# Altium integrated library ALTIUM-WCAP-ASLL-rev17a.IntLib: 95 symbols (part 1 of 2)
Pins are listed as number, name and electrical type; pins without a type are passive.

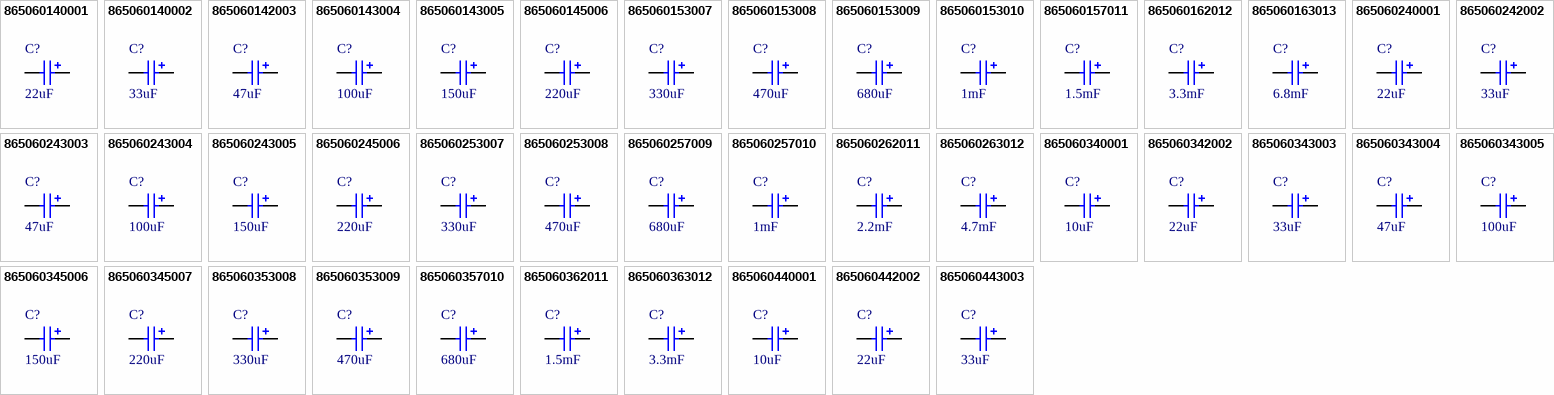
[diagram p0: symbols 865060140001 to 865060443003]

## 865060140001
designator C?  value 22uF
WCAP-ASLL Aluminum Electrolytic Capacitors, size Ф4x5.5mm, 6.3V DC, 22uF; Part Number: 865060140001; Rated Voltage: 6.3V DC; ComponentLink1Description: Manufacturer; ComponentLink1URL: http://www.we-online.de; ComponentLink2Description: Datasheet; ComponentLink2URL: http://katalog.we-online.de/pbs/datasheet/865060140001.pdf; Published Date: June 2017; Publisher: Wurth Elektronik; Size: Ф4x5.5mm; Life Cycle: 2000h; Operating Temperature: -55 °C up to +105 °C
footprint WCAP-ASLL_4x5.5
pins: 1 P, 2 N

## 865060140002
designator C?  value 33uF
WCAP-ASLL Aluminum Electrolytic Capacitors, size Ф4x5.5mm, 6.3V DC, 33uF; Part Number: 865060140002; Rated Voltage: 6.3V DC; ComponentLink1Description: Manufacturer; ComponentLink1URL: http://www.we-online.de; ComponentLink2Description: Datasheet; ComponentLink2URL: http://katalog.we-online.de/pbs/datasheet/865060140002.pdf; Published Date: June 2017; Publisher: Wurth Elektronik; Size: Ф4x5.5mm; Life Cycle: 2000h; Operating Temperature: -55 °C up to +105 °C
footprint WCAP-ASLL_4x5.5
pins: 1 P, 2 N

## 865060142003
designator C?  value 47uF
WCAP-ASLL Aluminum Electrolytic Capacitors, size Ф5x5.5mm, 6.3V DC, 47uF; Part Number: 865060142003; Rated Voltage: 6.3V DC; ComponentLink1Description: Manufacturer; ComponentLink1URL: http://www.we-online.de; ComponentLink2Description: Datasheet; ComponentLink2URL: http://katalog.we-online.de/pbs/datasheet/865060142003.pdf; Published Date: June 2017; Publisher: Wurth Elektronik; Size: Ф5x5.5mm; Life Cycle: 2000h; Operating Temperature: -55 °C up to +105 °C
footprint WCAP-ASLL_5x5.5
pins: 1 P, 2 N

## 865060143004
designator C?  value 100uF
WCAP-ASLL Aluminum Electrolytic Capacitors, size Ф6.3x5.5mm, 6.3V DC, 100uF; Part Number: 865060143004; Rated Voltage: 6.3V DC; ComponentLink1Description: Manufacturer; ComponentLink1URL: http://www.we-online.de; ComponentLink2Description: Datasheet; ComponentLink2URL: http://katalog.we-online.de/pbs/datasheet/865060143004.pdf; Published Date: June 2017; Publisher: Wurth Elektronik; Size: Ф6.3x5.5mm; Life Cycle: 2000h; Operating Temperature: -55 °C up to +105 °C
footprint WCAP-ASLL_6.3x5.5
pins: 1 P, 2 N

## 865060143005
designator C?  value 150uF
WCAP-ASLL Aluminum Electrolytic Capacitors, size Ф6.3x5.5mm, 6.3V DC, 150uF; Part Number: 865060143005; Rated Voltage: 6.3V DC; ComponentLink1Description: Manufacturer; ComponentLink1URL: http://www.we-online.de; ComponentLink2Description: Datasheet; ComponentLink2URL: http://katalog.we-online.de/pbs/datasheet/865060143005.pdf; Published Date: June 2017; Publisher: Wurth Elektronik; Size: Ф6.3x5.5mm; Life Cycle: 2000h; Operating Temperature: -55 °C up to +105 °C
footprint WCAP-ASLL_6.3x5.5
pins: 1 P, 2 N

## 865060145006
designator C?  value 220uF
WCAP-ASLL Aluminum Electrolytic Capacitors, size Ф6.3x7.7mm, 6.3V DC, 220uF; Part Number: 865060145006; Rated Voltage: 6.3V DC; ComponentLink1Description: Manufacturer; ComponentLink1URL: http://www.we-online.de; ComponentLink2Description: Datasheet; ComponentLink2URL: http://katalog.we-online.de/pbs/datasheet/865060145006.pdf; Published Date: June 2017; Publisher: Wurth Elektronik; Size: Ф6.3x7.7mm; Life Cycle: 2000h; Operating Temperature: -55 °C up to +105 °C
footprint WCAP-ASLL_6.3x7.7
pins: 1 P, 2 N

## 865060153007
designator C?  value 330uF
WCAP-ASLL Aluminum Electrolytic Capacitors, size Ф8x10.5mm, 6.3V DC, 330uF; Part Number: 865060153007; Rated Voltage: 6.3V DC; ComponentLink1Description: Manufacturer; ComponentLink1URL: http://www.we-online.de; ComponentLink2Description: Datasheet; ComponentLink2URL: http://katalog.we-online.de/pbs/datasheet/865060153007.pdf; Published Date: June 2017; Publisher: Wurth Elektronik; Size: Ф8x10.5mm; Life Cycle: 5000h; Operating Temperature: -55 °C up to +105 °C
footprint WCAP-ASLL_8x10.5
pins: 1 P, 2 N

## 865060153008
designator C?  value 470uF
WCAP-ASLL Aluminum Electrolytic Capacitors, size Ф8x10.5mm, 6.3V DC, 470uF; Part Number: 865060153008; Rated Voltage: 6.3V DC; ComponentLink1Description: Manufacturer; ComponentLink1URL: http://www.we-online.de; ComponentLink2Description: Datasheet; ComponentLink2URL: http://katalog.we-online.de/pbs/datasheet/865060153008.pdf; Published Date: June 2017; Publisher: Wurth Elektronik; Size: Ф8x10.5mm; Life Cycle: 5000h; Operating Temperature: -55 °C up to +105 °C
footprint WCAP-ASLL_8x10.5
pins: 1 P, 2 N

## 865060153009
designator C?  value 680uF
WCAP-ASLL Aluminum Electrolytic Capacitors, size Ф8x10.5mm, 6.3V DC, 680uF; Part Number: 865060153009; Rated Voltage: 6.3V DC; ComponentLink1Description: Manufacturer; ComponentLink1URL: http://www.we-online.de; ComponentLink2Description: Datasheet; ComponentLink2URL: http://katalog.we-online.de/pbs/datasheet/865060153009.pdf; Published Date: June 2017; Publisher: Wurth Elektronik; Size: Ф8x10.5mm; Life Cycle: 5000h; Operating Temperature: -55 °C up to +105 °C
footprint WCAP-ASLL_8x10.5
pins: 1 P, 2 N

## 865060153010
designator C?  value 1mF
WCAP-ASLL Aluminum Electrolytic Capacitors, size Ф8x10.5mm, 6.3V DC, 1mF; Part Number: 865060153010; Rated Voltage: 6.3V DC; ComponentLink1Description: Manufacturer; ComponentLink1URL: http://www.we-online.de; ComponentLink2Description: Datasheet; ComponentLink2URL: http://katalog.we-online.de/pbs/datasheet/865060153010.pdf; Published Date: June 2017; Publisher: Wurth Elektronik; Size: Ф8x10.5mm; Life Cycle: 5000h; Operating Temperature: -55 °C up to +105 °C
footprint WCAP-ASLL_8x10.5
pins: 1 P, 2 N

## 865060157011
designator C?  value 1.5mF
WCAP-ASLL Aluminum Electrolytic Capacitors, size Ф10x10.5mm, 6.3V DC, 1.5mF; Part Number: 865060157011; Rated Voltage: 6.3V DC; ComponentLink1Description: Manufacturer; ComponentLink1URL: http://www.we-online.de; ComponentLink2Description: Datasheet; ComponentLink2URL: http://katalog.we-online.de/pbs/datasheet/865060157011.pdf; Published Date: June 2017; Publisher: Wurth Elektronik; Size: Ф10x10.5mm; Life Cycle: 5000h; Operating Temperature: -55 °C up to +105 °C
footprint WCAP-ASLL_10x10.5
pins: 1 P, 2 N

## 865060162012
designator C?  value 3.3mF
WCAP-ASLL Aluminum Electrolytic Capacitors, size Ф12.5x14mm, 6.3V DC, 3.3mF; Part Number: 865060162012; Rated Voltage: 6.3V DC; ComponentLink1Description: Manufacturer; ComponentLink1URL: http://www.we-online.de; ComponentLink2Description: Datasheet; ComponentLink2URL: http://katalog.we-online.de/pbs/datasheet/865060162012.pdf; Published Date: June 2017; Publisher: Wurth Elektronik; Size: Ф12.5x14mm; Life Cycle: 5000h; Operating Temperature: -55 °C up to +105 °C
footprint WCAP-ASLL_12.5x14
pins: 1 P, 2 N

## 865060163013
designator C?  value 6.8mF
WCAP-ASLL Aluminum Electrolytic Capacitors, size Ф16x17mm, 6.3V DC, 6.8mF; Part Number: 865060163013; Rated Voltage: 6.3V DC; ComponentLink1Description: Manufacturer; ComponentLink1URL: http://www.we-online.de; ComponentLink2Description: Datasheet; ComponentLink2URL: http://katalog.we-online.de/pbs/datasheet/865060163013.pdf; Published Date: June 2017; Publisher: Wurth Elektronik; Size: Ф16x17mm; Life Cycle: 5000h; Operating Temperature: -55 °C up to +105 °C
footprint WCAP-ASLL_16x17
pins: 1 P, 2 N

## 865060240001
designator C?  value 22uF
WCAP-ASLL Aluminum Electrolytic Capacitors, size Ф4x5.5mm, 10V DC, 22uF; Part Number: 865060240001; Rated Voltage: 10V DC; ComponentLink1Description: Manufacturer; ComponentLink1URL: http://www.we-online.de; ComponentLink2Description: Datasheet; ComponentLink2URL: http://katalog.we-online.de/pbs/datasheet/865060240001.pdf; Published Date: June 2017; Publisher: Wurth Elektronik; Size: Ф4x5.5mm; Life Cycle: 2000h; Operating Temperature: -55 °C up to +105 °C
footprint WCAP-ASLL_4x5.5
pins: 1 P, 2 N

## 865060242002
designator C?  value 33uF
WCAP-ASLL Aluminum Electrolytic Capacitors, size Ф5x5.5mm, 10V DC, 33uF; Part Number: 865060242002; Rated Voltage: 10V DC; ComponentLink1Description: Manufacturer; ComponentLink1URL: http://www.we-online.de; ComponentLink2Description: Datasheet; ComponentLink2URL: http://katalog.we-online.de/pbs/datasheet/865060242002.pdf; Published Date: June 2017; Publisher: Wurth Elektronik; Size: Ф5x5.5mm; Life Cycle: 2000h; Operating Temperature: -55 °C up to +105 °C
footprint WCAP-ASLL_5x5.5
pins: 1 P, 2 N

## 865060243003
designator C?  value 47uF
WCAP-ASLL Aluminum Electrolytic Capacitors, size Ф6.3x5.5mm, 10V DC, 47uF; Part Number: 865060243003; Rated Voltage: 10V DC; ComponentLink1Description: Manufacturer; ComponentLink1URL: http://www.we-online.de; ComponentLink2Description: Datasheet; ComponentLink2URL: http://katalog.we-online.de/pbs/datasheet/865060243003.pdf; Published Date: June 2017; Publisher: Wurth Elektronik; Size: Ф6.3x5.5mm; Life Cycle: 2000h; Operating Temperature: -55 °C up to +105 °C
footprint WCAP-ASLL_6.3x5.5
pins: 1 P, 2 N

## 865060243004
designator C?  value 100uF
WCAP-ASLL Aluminum Electrolytic Capacitors, size Ф6.3x5.5mm, 10V DC, 100uF; Part Number: 865060243004; Rated Voltage: 10V DC; ComponentLink1Description: Manufacturer; ComponentLink1URL: http://www.we-online.de; ComponentLink2Description: Datasheet; ComponentLink2URL: http://katalog.we-online.de/pbs/datasheet/865060243004.pdf; Published Date: June 2017; Publisher: Wurth Elektronik; Size: Ф6.3x5.5mm; Life Cycle: 2000h; Operating Temperature: -55 °C up to +105 °C
footprint WCAP-ASLL_6.3x5.5
pins: 1 P, 2 N

## 865060243005
designator C?  value 150uF
WCAP-ASLL Aluminum Electrolytic Capacitors, size Ф6.3x5.5mm, 10V DC, 150uF; Part Number: 865060243005; Rated Voltage: 10V DC; ComponentLink1Description: Manufacturer; ComponentLink1URL: http://www.we-online.de; ComponentLink2Description: Datasheet; ComponentLink2URL: http://katalog.we-online.de/pbs/datasheet/865060243005.pdf; Published Date: June 2017; Publisher: Wurth Elektronik; Size: Ф6.3x5.5mm; Life Cycle: 2000h; Operating Temperature: -55 °C up to +105 °C
footprint WCAP-ASLL_6.3x5.5
pins: 1 P, 2 N

## 865060245006
designator C?  value 220uF
WCAP-ASLL Aluminum Electrolytic Capacitors, size Ф6.3x7.7mm, 10V DC, 220uF; Part Number: 865060245006; Rated Voltage: 10V DC; ComponentLink1Description: Manufacturer; ComponentLink1URL: http://www.we-online.de; ComponentLink2Description: Datasheet; ComponentLink2URL: http://katalog.we-online.de/pbs/datasheet/865060245006.pdf; Published Date: June 2017; Publisher: Wurth Elektronik; Size: Ф6.3x7.7mm; Life Cycle: 2000h; Operating Temperature: -55 °C up to +105 °C
footprint WCAP-ASLL_6.3x7.7
pins: 1 P, 2 N

## 865060253007
designator C?  value 330uF
WCAP-ASLL Aluminum Electrolytic Capacitors, size Ф8x10.5mm, 10V DC, 330uF; Part Number: 865060253007; Rated Voltage: 10V DC; ComponentLink1Description: Manufacturer; ComponentLink1URL: http://www.we-online.de; ComponentLink2Description: Datasheet; ComponentLink2URL: http://katalog.we-online.de/pbs/datasheet/865060253007.pdf; Published Date: June 2017; Publisher: Wurth Elektronik; Size: Ф8x10.5mm; Life Cycle: 5000h; Operating Temperature: -55 °C up to +105 °C
footprint WCAP-ASLL_8x10.5
pins: 1 P, 2 N

## 865060253008
designator C?  value 470uF
WCAP-ASLL Aluminum Electrolytic Capacitors, size Ф8x10.5mm, 10V DC, 470uF; Part Number: 865060253008; Rated Voltage: 10V DC; ComponentLink1Description: Manufacturer; ComponentLink1URL: http://www.we-online.de; ComponentLink2Description: Datasheet; ComponentLink2URL: http://katalog.we-online.de/pbs/datasheet/865060253008.pdf; Published Date: June 2017; Publisher: Wurth Elektronik; Size: Ф8x10.5mm; Life Cycle: 5000h; Operating Temperature: -55 °C up to +105 °C
footprint WCAP-ASLL_8x10.5
pins: 1 P, 2 N

## 865060257009
designator C?  value 680uF
WCAP-ASLL Aluminum Electrolytic Capacitors, size Ф10x10.5mm, 10V DC, 680uF; Part Number: 865060257009; Rated Voltage: 10V DC; ComponentLink1Description: Manufacturer; ComponentLink1URL: http://www.we-online.de; ComponentLink2Description: Datasheet; ComponentLink2URL: http://katalog.we-online.de/pbs/datasheet/865060257009.pdf; Published Date: June 2017; Publisher: Wurth Elektronik; Size: Ф10x10.5mm; Life Cycle: 5000h; Operating Temperature: -55 °C up to +105 °C
footprint WCAP-ASLL_10x10.5
pins: 1 P, 2 N

## 865060257010
designator C?  value 1mF
WCAP-ASLL Aluminum Electrolytic Capacitors, size Ф10x10.5mm, 10V DC, 1mF; Part Number: 865060257010; Rated Voltage: 10V DC; ComponentLink1Description: Manufacturer; ComponentLink1URL: http://www.we-online.de; ComponentLink2Description: Datasheet; ComponentLink2URL: http://katalog.we-online.de/pbs/datasheet/865060257010.pdf; Published Date: June 2017; Publisher: Wurth Elektronik; Size: Ф10x10.5mm; Life Cycle: 5000h; Operating Temperature: -55 °C up to +105 °C
footprint WCAP-ASLL_10x10.5
pins: 1 P, 2 N

## 865060262011
designator C?  value 2.2mF
WCAP-ASLL Aluminum Electrolytic Capacitors, size Ф12.5x14mm, 10V DC, 2.2mF; Part Number: 865060262011; Rated Voltage: 10V DC; ComponentLink1Description: Manufacturer; ComponentLink1URL: http://www.we-online.de; ComponentLink2Description: Datasheet; ComponentLink2URL: http://katalog.we-online.de/pbs/datasheet/865060262011.pdf; Published Date: June 2017; Publisher: Wurth Elektronik; Size: Ф12.5x14mm; Life Cycle: 5000h; Operating Temperature: -55 °C up to +105 °C
footprint WCAP-ASLL_12.5x14
pins: 1 P, 2 N

## 865060263012
designator C?  value 4.7mF
WCAP-ASLL Aluminum Electrolytic Capacitors, size Ф16x17mm, 10V DC, 4.7mF; Part Number: 865060263012; Rated Voltage: 10V DC; ComponentLink1Description: Manufacturer; ComponentLink1URL: http://www.we-online.de; ComponentLink2Description: Datasheet; ComponentLink2URL: http://katalog.we-online.de/pbs/datasheet/865060263012.pdf; Published Date: June 2017; Publisher: Wurth Elektronik; Size: Ф16x17mm; Life Cycle: 5000h; Operating Temperature: -55 °C up to +105 °C
footprint WCAP-ASLL_16x17
pins: 1 P, 2 N

## 865060340001
designator C?  value 10uF
WCAP-ASLL Aluminum Electrolytic Capacitors, size Ф4x5.5mm, 16V DC, 10uF; Part Number: 865060340001; Rated Voltage: 16V DC; ComponentLink1Description: Manufacturer; ComponentLink1URL: http://www.we-online.de; ComponentLink2Description: Datasheet; ComponentLink2URL: http://katalog.we-online.de/pbs/datasheet/865060340001.pdf; Published Date: June 2017; Publisher: Wurth Elektronik; Size: Ф4x5.5mm; Life Cycle: 2000h; Operating Temperature: -55 °C up to +105 °C
footprint WCAP-ASLL_4x5.5
pins: 1 P, 2 N

## 865060342002
designator C?  value 22uF
WCAP-ASLL Aluminum Electrolytic Capacitors, size Ф5x5.5mm, 16V DC, 22uF; Part Number: 865060342002; Rated Voltage: 16V DC; ComponentLink1Description: Manufacturer; ComponentLink1URL: http://www.we-online.de; ComponentLink2Description: Datasheet; ComponentLink2URL: http://katalog.we-online.de/pbs/datasheet/865060342002.pdf; Published Date: June 2017; Publisher: Wurth Elektronik; Size: Ф5x5.5mm; Life Cycle: 2000h; Operating Temperature: -55 °C up to +105 °C
footprint WCAP-ASLL_5x5.5
pins: 1 P, 2 N

## 865060343003
designator C?  value 33uF
WCAP-ASLL Aluminum Electrolytic Capacitors, size Ф6.3x5.5mm, 16V DC, 33uF; Part Number: 865060343003; Rated Voltage: 16V DC; ComponentLink1Description: Manufacturer; ComponentLink1URL: http://www.we-online.de; ComponentLink2Description: Datasheet; ComponentLink2URL: http://katalog.we-online.de/pbs/datasheet/865060343003.pdf; Published Date: June 2017; Publisher: Wurth Elektronik; Size: Ф6.3x5.5mm; Life Cycle: 2000h; Operating Temperature: -55 °C up to +105 °C
footprint WCAP-ASLL_6.3x5.5
pins: 1 P, 2 N

## 865060343004
designator C?  value 47uF
WCAP-ASLL Aluminum Electrolytic Capacitors, size Ф6.3x5.5mm, 16V DC, 47uF; Part Number: 865060343004; Rated Voltage: 16V DC; ComponentLink1Description: Manufacturer; ComponentLink1URL: http://www.we-online.de; ComponentLink2Description: Datasheet; ComponentLink2URL: http://katalog.we-online.de/pbs/datasheet/865060343004.pdf; Published Date: June 2017; Publisher: Wurth Elektronik; Size: Ф6.3x5.5mm; Life Cycle: 2000h; Operating Temperature: -55 °C up to +105 °C
footprint WCAP-ASLL_6.3x5.5
pins: 1 P, 2 N

## 865060343005
designator C?  value 100uF
WCAP-ASLL Aluminum Electrolytic Capacitors, size Ф6.3x5.5mm, 16V DC, 100uF; Part Number: 865060343005; Rated Voltage: 16V DC; ComponentLink1Description: Manufacturer; ComponentLink1URL: http://www.we-online.de; ComponentLink2Description: Datasheet; ComponentLink2URL: http://katalog.we-online.de/pbs/datasheet/865060343005.pdf; Published Date: June 2017; Publisher: Wurth Elektronik; Size: Ф6.3x5.5mm; Life Cycle: 2000h; Operating Temperature: -55 °C up to +105 °C
footprint WCAP-ASLL_6.3x5.5
pins: 1 P, 2 N

## 865060345006
designator C?  value 150uF
WCAP-ASLL Aluminum Electrolytic Capacitors, size Ф6.3x7.7mm, 16V DC, 150uF; Part Number: 865060345006; Rated Voltage: 16V DC; ComponentLink1Description: Manufacturer; ComponentLink1URL: http://www.we-online.de; ComponentLink2Description: Datasheet; ComponentLink2URL: http://katalog.we-online.de/pbs/datasheet/865060345006.pdf; Published Date: June 2017; Publisher: Wurth Elektronik; Size: Ф6.3x7.7mm; Life Cycle: 2000h; Operating Temperature: -55 °C up to +105 °C
footprint WCAP-ASLL_6.3x7.7
pins: 1 P, 2 N

## 865060345007
designator C?  value 220uF
WCAP-ASLL Aluminum Electrolytic Capacitors, size Ф6.3x7.7mm, 16V DC, 220uF; Part Number: 865060345007; Rated Voltage: 16V DC; ComponentLink1Description: Manufacturer; ComponentLink1URL: http://www.we-online.de; ComponentLink2Description: Datasheet; ComponentLink2URL: http://katalog.we-online.de/pbs/datasheet/865060345007.pdf; Published Date: June 2017; Publisher: Wurth Elektronik; Size: Ф6.3x7.7mm; Life Cycle: 2000h; Operating Temperature: -55 °C up to +105 °C
footprint WCAP-ASLL_6.3x7.7
pins: 1 P, 2 N

## 865060353008
designator C?  value 330uF
WCAP-ASLL Aluminum Electrolytic Capacitors, size Ф8x10.5mm, 16V DC, 330uF; Part Number: 865060353008; Rated Voltage: 16V DC; ComponentLink1Description: Manufacturer; ComponentLink1URL: http://www.we-online.de; ComponentLink2Description: Datasheet; ComponentLink2URL: http://katalog.we-online.de/pbs/datasheet/865060353008.pdf; Published Date: June 2017; Publisher: Wurth Elektronik; Size: Ф8x10.5mm; Life Cycle: 5000h; Operating Temperature: -55 °C up to +105 °C
footprint WCAP-ASLL_8x10.5
pins: 1 P, 2 N

## 865060353009
designator C?  value 470uF
WCAP-ASLL Aluminum Electrolytic Capacitors, size Ф8x10.5mm, 16V DC, 470uF; Part Number: 865060353009; Rated Voltage: 16V DC; ComponentLink1Description: Manufacturer; ComponentLink1URL: http://www.we-online.de; ComponentLink2Description: Datasheet; ComponentLink2URL: http://katalog.we-online.de/pbs/datasheet/865060353009.pdf; Published Date: June 2017; Publisher: Wurth Elektronik; Size: Ф8x10.5mm; Life Cycle: 5000h; Operating Temperature: -55 °C up to +105 °C
footprint WCAP-ASLL_8x10.5
pins: 1 P, 2 N

## 865060357010
designator C?  value 680uF
WCAP-ASLL Aluminum Electrolytic Capacitors, size Ф10x10.5mm, 16V DC, 680uF; Part Number: 865060357010; Rated Voltage: 16V DC; ComponentLink1Description: Manufacturer; ComponentLink1URL: http://www.we-online.de; ComponentLink2Description: Datasheet; ComponentLink2URL: http://katalog.we-online.de/pbs/datasheet/865060357010.pdf; Published Date: June 2017; Publisher: Wurth Elektronik; Size: Ф10x10.5mm; Life Cycle: 5000h; Operating Temperature: -55 °C up to +105 °C
footprint WCAP-ASLL_10x10.5
pins: 1 P, 2 N

## 865060362011
designator C?  value 1.5mF
WCAP-ASLL Aluminum Electrolytic Capacitors, size Ф12.5x14mm, 16V DC, 1.5mF; Part Number: 865060362011; Rated Voltage: 16V DC; ComponentLink1Description: Manufacturer; ComponentLink1URL: http://www.we-online.de; ComponentLink2Description: Datasheet; ComponentLink2URL: http://katalog.we-online.de/pbs/datasheet/865060362011.pdf; Published Date: June 2017; Publisher: Wurth Elektronik; Size: Ф12.5x14mm; Life Cycle: 5000h; Operating Temperature: -55 °C up to +105 °C
footprint WCAP-ASLL_12.5x14
pins: 1 P, 2 N

## 865060363012
designator C?  value 3.3mF
WCAP-ASLL Aluminum Electrolytic Capacitors, size Ф16x17mm, 16V DC, 3.3mF; Part Number: 865060363012; Rated Voltage: 16V DC; ComponentLink1Description: Manufacturer; ComponentLink1URL: http://www.we-online.de; ComponentLink2Description: Datasheet; ComponentLink2URL: http://katalog.we-online.de/pbs/datasheet/865060363012.pdf; Published Date: June 2017; Publisher: Wurth Elektronik; Size: Ф16x17mm; Life Cycle: 5000h; Operating Temperature: -55 °C up to +105 °C
footprint WCAP-ASLL_16x17
pins: 1 P, 2 N

## 865060440001
designator C?  value 10uF
WCAP-ASLL Aluminum Electrolytic Capacitors, size Ф4x5.5mm, 25V DC, 10uF; Part Number: 865060440001; Rated Voltage: 25V DC; ComponentLink1Description: Manufacturer; ComponentLink1URL: http://www.we-online.de; ComponentLink2Description: Datasheet; ComponentLink2URL: http://katalog.we-online.de/pbs/datasheet/865060440001.pdf; Published Date: June 2017; Publisher: Wurth Elektronik; Size: Ф4x5.5mm; Life Cycle: 2000h; Operating Temperature: -55 °C up to +105 °C
footprint WCAP-ASLL_4x5.5
pins: 1 P, 2 N

## 865060442002
designator C?  value 22uF
WCAP-ASLL Aluminum Electrolytic Capacitors, size Ф5x5.5mm, 25V DC, 22uF; Part Number: 865060442002; Rated Voltage: 25V DC; ComponentLink1Description: Manufacturer; ComponentLink1URL: http://www.we-online.de; ComponentLink2Description: Datasheet; ComponentLink2URL: http://katalog.we-online.de/pbs/datasheet/865060442002.pdf; Published Date: June 2017; Publisher: Wurth Elektronik; Size: Ф5x5.5mm; Life Cycle: 2000h; Operating Temperature: -55 °C up to +105 °C
footprint WCAP-ASLL_5x5.5
pins: 1 P, 2 N

## 865060443003
designator C?  value 33uF
WCAP-ASLL Aluminum Electrolytic Capacitors, size Ф6.3x5.5mm, 25V DC, 33uF; Part Number: 865060443003; Rated Voltage: 25V DC; ComponentLink1Description: Manufacturer; ComponentLink1URL: http://www.we-online.de; ComponentLink2Description: Datasheet; ComponentLink2URL: http://katalog.we-online.de/pbs/datasheet/865060443003.pdf; Published Date: June 2017; Publisher: Wurth Elektronik; Size: Ф6.3x5.5mm; Life Cycle: 2000h; Operating Temperature: -55 °C up to +105 °C
footprint WCAP-ASLL_6.3x5.5
pins: 1 P, 2 N

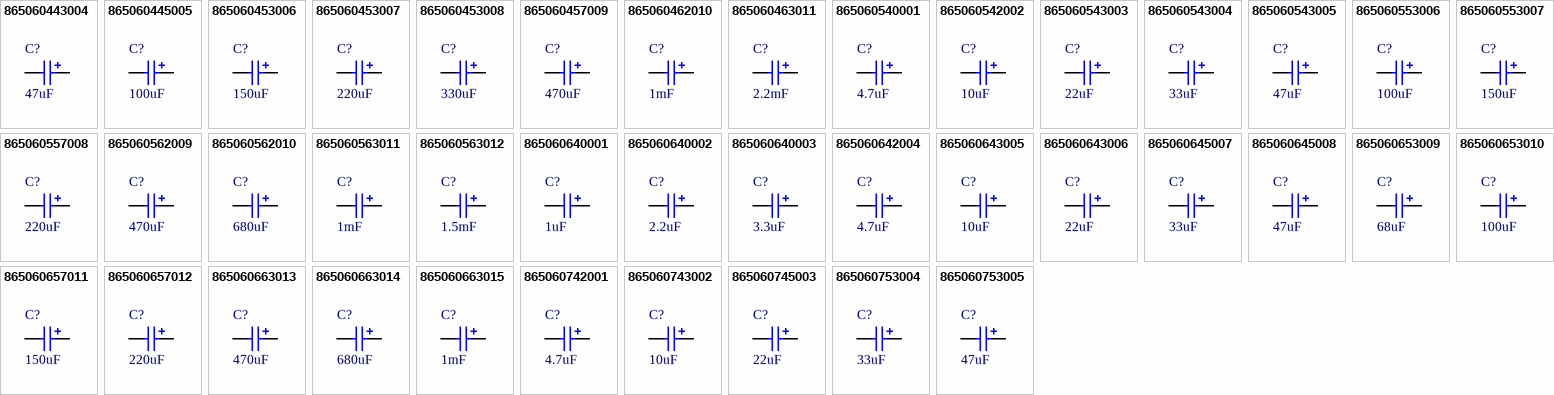
[diagram p1: symbols 865060443004 to 865060753005]

## 865060443004
designator C?  value 47uF
WCAP-ASLL Aluminum Electrolytic Capacitors, size Ф6.3x5.5mm, 25V DC, 47uF; Part Number: 865060443004; Rated Voltage: 25V DC; ComponentLink1Description: Manufacturer; ComponentLink1URL: http://www.we-online.de; ComponentLink2Description: Datasheet; ComponentLink2URL: http://katalog.we-online.de/pbs/datasheet/865060443004.pdf; Published Date: June 2017; Publisher: Wurth Elektronik; Size: Ф6.3x5.5mm; Life Cycle: 2000h; Operating Temperature: -55 °C up to +105 °C
footprint WCAP-ASLL_6.3x5.5
pins: 1 P, 2 N

## 865060445005
designator C?  value 100uF
WCAP-ASLL Aluminum Electrolytic Capacitors, size Ф6.3x7.7mm, 25V DC, 100uF; Part Number: 865060445005; Rated Voltage: 25V DC; ComponentLink1Description: Manufacturer; ComponentLink1URL: http://www.we-online.de; ComponentLink2Description: Datasheet; ComponentLink2URL: http://katalog.we-online.de/pbs/datasheet/865060445005.pdf; Published Date: June 2017; Publisher: Wurth Elektronik; Size: Ф6.3x7.7mm; Life Cycle: 2000h; Operating Temperature: -55 °C up to +105 °C
footprint WCAP-ASLL_6.3x7.7
pins: 1 P, 2 N

## 865060453006
designator C?  value 150uF
WCAP-ASLL Aluminum Electrolytic Capacitors, size Ф8x10.5mm, 25V DC, 150uF; Part Number: 865060453006; Rated Voltage: 25V DC; ComponentLink1Description: Manufacturer; ComponentLink1URL: http://www.we-online.de; ComponentLink2Description: Datasheet; ComponentLink2URL: http://katalog.we-online.de/pbs/datasheet/865060453006.pdf; Published Date: June 2017; Publisher: Wurth Elektronik; Size: Ф8x10.5mm; Life Cycle: 5000h; Operating Temperature: -55 °C up to +105 °C
footprint WCAP-ASLL_8x10.5
pins: 1 P, 2 N

## 865060453007
designator C?  value 220uF
WCAP-ASLL Aluminum Electrolytic Capacitors, size Ф8x10.5mm, 25V DC, 220uF; Part Number: 865060453007; Rated Voltage: 25V DC; ComponentLink1Description: Manufacturer; ComponentLink1URL: http://www.we-online.de; ComponentLink2Description: Datasheet; ComponentLink2URL: http://katalog.we-online.de/pbs/datasheet/865060453007.pdf; Published Date: June 2017; Publisher: Wurth Elektronik; Size: Ф8x10.5mm; Life Cycle: 5000h; Operating Temperature: -55 °C up to +105 °C
footprint WCAP-ASLL_8x10.5
pins: 1 P, 2 N

## 865060453008
designator C?  value 330uF
WCAP-ASLL Aluminum Electrolytic Capacitors, size Ф8x10.5mm, 25V DC, 330uF; Part Number: 865060453008; Rated Voltage: 25V DC; ComponentLink1Description: Manufacturer; ComponentLink1URL: http://www.we-online.de; ComponentLink2Description: Datasheet; ComponentLink2URL: http://katalog.we-online.de/pbs/datasheet/865060453008.pdf; Published Date: June 2017; Publisher: Wurth Elektronik; Size: Ф8x10.5mm; Life Cycle: 5000h; Operating Temperature: -55 °C up to +105 °C
footprint WCAP-ASLL_8x10.5
pins: 1 P, 2 N

## 865060457009
designator C?  value 470uF
WCAP-ASLL Aluminum Electrolytic Capacitors, size Ф10x10.5mm, 25V DC, 470uF; Part Number: 865060457009; Rated Voltage: 25V DC; ComponentLink1Description: Manufacturer; ComponentLink1URL: http://www.we-online.de; ComponentLink2Description: Datasheet; ComponentLink2URL: http://katalog.we-online.de/pbs/datasheet/865060457009.pdf; Published Date: June 2017; Publisher: Wurth Elektronik; Size: Ф10x10.5mm; Life Cycle: 5000h; Operating Temperature: -55 °C up to +105 °C
footprint WCAP-ASLL_10x10.5
pins: 1 P, 2 N

## 865060462010
designator C?  value 1mF
WCAP-ASLL Aluminum Electrolytic Capacitors, size Ф12.5x14mm, 25V DC, 1mF; Part Number: 865060462010; Rated Voltage: 25V DC; ComponentLink1Description: Manufacturer; ComponentLink1URL: http://www.we-online.de; ComponentLink2Description: Datasheet; ComponentLink2URL: http://katalog.we-online.de/pbs/datasheet/865060462010.pdf; Published Date: June 2017; Publisher: Wurth Elektronik; Size: Ф12.5x14mm; Life Cycle: 5000h; Operating Temperature: -55 °C up to +105 °C
footprint WCAP-ASLL_12.5x14
pins: 1 P, 2 N

## 865060463011
designator C?  value 2.2mF
WCAP-ASLL Aluminum Electrolytic Capacitors, size Ф16x17mm, 25V DC, 2.2mF; Part Number: 865060463011; Rated Voltage: 25V DC; ComponentLink1Description: Manufacturer; ComponentLink1URL: http://www.we-online.de; ComponentLink2Description: Datasheet; ComponentLink2URL: http://katalog.we-online.de/pbs/datasheet/865060463011.pdf; Published Date: June 2017; Publisher: Wurth Elektronik; Size: Ф16x17mm; Life Cycle: 5000h; Operating Temperature: -55 °C up to +105 °C
footprint WCAP-ASLL_16x17
pins: 1 P, 2 N

## 865060540001
designator C?  value 4.7uF
WCAP-ASLL Aluminum Electrolytic Capacitors, size Ф4x5.5mm, 35V DC, 4.7uF; Part Number: 865060540001; Rated Voltage: 35V DC; ComponentLink1Description: Manufacturer; ComponentLink1URL: http://www.we-online.de; ComponentLink2Description: Datasheet; ComponentLink2URL: http://katalog.we-online.de/pbs/datasheet/865060540001.pdf; Published Date: June 2017; Publisher: Wurth Elektronik; Size: Ф4x5.5mm; Life Cycle: 2000h; Operating Temperature: -55 °C up to +105 °C
footprint WCAP-ASLL_4x5.5
pins: 1 P, 2 N

## 865060542002
designator C?  value 10uF
WCAP-ASLL Aluminum Electrolytic Capacitors, size Ф5x5.5mm, 35V DC, 10uF; Part Number: 865060542002; Rated Voltage: 35V DC; ComponentLink1Description: Manufacturer; ComponentLink1URL: http://www.we-online.de; ComponentLink2Description: Datasheet; ComponentLink2URL: http://katalog.we-online.de/pbs/datasheet/865060542002.pdf; Published Date: June 2017; Publisher: Wurth Elektronik; Size: Ф5x5.5mm; Life Cycle: 2000h; Operating Temperature: -55 °C up to +105 °C
footprint WCAP-ASLL_5x5.5
pins: 1 P, 2 N

## 865060543003
designator C?  value 22uF
WCAP-ASLL Aluminum Electrolytic Capacitors, size Ф6.3x5.5mm, 35V DC, 22uF; Part Number: 865060543003; Rated Voltage: 35V DC; ComponentLink1Description: Manufacturer; ComponentLink1URL: http://www.we-online.de; ComponentLink2Description: Datasheet; ComponentLink2URL: http://katalog.we-online.de/pbs/datasheet/865060543003.pdf; Published Date: June 2017; Publisher: Wurth Elektronik; Size: Ф6.3x5.5mm; Life Cycle: 2000h; Operating Temperature: -55 °C up to +105 °C
footprint WCAP-ASLL_6.3x5.5
pins: 1 P, 2 N

## 865060543004
designator C?  value 33uF
WCAP-ASLL Aluminum Electrolytic Capacitors, size Ф6.3x5.5mm, 35V DC, 33uF; Part Number: 865060543004; Rated Voltage: 35V DC; ComponentLink1Description: Manufacturer; ComponentLink1URL: http://www.we-online.de; ComponentLink2Description: Datasheet; ComponentLink2URL: http://katalog.we-online.de/pbs/datasheet/865060543004.pdf; Published Date: June 2017; Publisher: Wurth Elektronik; Size: Ф6.3x5.5mm; Life Cycle: 2000h; Operating Temperature: -55 °C up to +105 °C
footprint WCAP-ASLL_6.3x5.5
pins: 1 P, 2 N

## 865060543005
designator C?  value 47uF
WCAP-ASLL Aluminum Electrolytic Capacitors, size Ф6.3x5.5mm, 35V DC, 47uF; Part Number: 865060543005; Rated Voltage: 35V DC; ComponentLink1Description: Manufacturer; ComponentLink1URL: http://www.we-online.de; ComponentLink2Description: Datasheet; ComponentLink2URL: http://katalog.we-online.de/pbs/datasheet/865060543005.pdf; Published Date: June 2017; Publisher: Wurth Elektronik; Size: Ф6.3x5.5mm; Life Cycle: 2000h; Operating Temperature: -55 °C up to +105 °C
footprint WCAP-ASLL_6.3x5.5
pins: 1 P, 2 N

## 865060553006
designator C?  value 100uF
WCAP-ASLL Aluminum Electrolytic Capacitors, size Ф8x10.5mm, 35V DC, 100uF; Part Number: 865060553006; Rated Voltage: 35V DC; ComponentLink1Description: Manufacturer; ComponentLink1URL: http://www.we-online.de; ComponentLink2Description: Datasheet; ComponentLink2URL: http://katalog.we-online.de/pbs/datasheet/865060553006.pdf; Published Date: June 2017; Publisher: Wurth Elektronik; Size: Ф8x10.5mm; Life Cycle: 5000h; Operating Temperature: -55 °C up to +105 °C
footprint WCAP-ASLL_8x10.5
pins: 1 P, 2 N

## 865060553007
designator C?  value 150uF
WCAP-ASLL Aluminum Electrolytic Capacitors, size Ф8x10.5mm, 35V DC, 150uF; Part Number: 865060553007; Rated Voltage: 35V DC; ComponentLink1Description: Manufacturer; ComponentLink1URL: http://www.we-online.de; ComponentLink2Description: Datasheet; ComponentLink2URL: http://katalog.we-online.de/pbs/datasheet/865060553007.pdf; Published Date: June 2017; Publisher: Wurth Elektronik; Size: Ф8x10.5mm; Life Cycle: 5000h; Operating Temperature: -55 °C up to +105 °C
footprint WCAP-ASLL_8x10.5
pins: 1 P, 2 N

## 865060557008
designator C?  value 220uF
WCAP-ASLL Aluminum Electrolytic Capacitors, size Ф10x10.5mm, 35V DC, 220uF; Part Number: 865060557008; Rated Voltage: 35V DC; ComponentLink1Description: Manufacturer; ComponentLink1URL: http://www.we-online.de; ComponentLink2Description: Datasheet; ComponentLink2URL: http://katalog.we-online.de/pbs/datasheet/865060557008.pdf; Published Date: June 2017; Publisher: Wurth Elektronik; Size: Ф10x10.5mm; Life Cycle: 5000h; Operating Temperature: -55 °C up to +105 °C
footprint WCAP-ASLL_10x10.5
pins: 1 P, 2 N

## 865060562009
designator C?  value 470uF
WCAP-ASLL Aluminum Electrolytic Capacitors, size Ф12.5x14mm, 35V DC, 470uF; Part Number: 865060562009; Rated Voltage: 35V DC; ComponentLink1Description: Manufacturer; ComponentLink1URL: http://www.we-online.de; ComponentLink2Description: Datasheet; ComponentLink2URL: http://katalog.we-online.de/pbs/datasheet/865060562009.pdf; Published Date: June 2017; Publisher: Wurth Elektronik; Size: Ф12.5x14mm; Life Cycle: 5000h; Operating Temperature: -55 °C up to +105 °C
footprint WCAP-ASLL_12.5x14
pins: 1 P, 2 N

## 865060562010
designator C?  value 680uF
WCAP-ASLL Aluminum Electrolytic Capacitors, size Ф12.5x14mm, 35V DC, 680uF; Part Number: 865060562010; Rated Voltage: 35V DC; ComponentLink1Description: Manufacturer; ComponentLink1URL: http://www.we-online.de; ComponentLink2Description: Datasheet; ComponentLink2URL: http://katalog.we-online.de/pbs/datasheet/865060562010.pdf; Published Date: June 2017; Publisher: Wurth Elektronik; Size: Ф12.5x14mm; Life Cycle: 5000h; Operating Temperature: -55 °C up to +105 °C
footprint WCAP-ASLL_12.5x14
pins: 1 P, 2 N

## 865060563011
designator C?  value 1mF
WCAP-ASLL Aluminum Electrolytic Capacitors, size Ф16x17mm, 35V DC, 1mF; Part Number: 865060563011; Rated Voltage: 35V DC; ComponentLink1Description: Manufacturer; ComponentLink1URL: http://www.we-online.de; ComponentLink2Description: Datasheet; ComponentLink2URL: http://katalog.we-online.de/pbs/datasheet/865060563011.pdf; Published Date: June 2017; Publisher: Wurth Elektronik; Size: Ф16x17mm; Life Cycle: 5000h; Operating Temperature: -55 °C up to +105 °C
footprint WCAP-ASLL_16x17
pins: 1 P, 2 N

## 865060563012
designator C?  value 1.5mF
WCAP-ASLL Aluminum Electrolytic Capacitors, size Ф16x17mm, 35V DC, 1.5mF; Part Number: 865060563012; Rated Voltage: 35V DC; ComponentLink1Description: Manufacturer; ComponentLink1URL: http://www.we-online.de; ComponentLink2Description: Datasheet; ComponentLink2URL: http://katalog.we-online.de/pbs/datasheet/865060563012.pdf; Published Date: June 2017; Publisher: Wurth Elektronik; Size: Ф16x17mm; Life Cycle: 5000h; Operating Temperature: -55 °C up to +105 °C
footprint WCAP-ASLL_16x17
pins: 1 P, 2 N

## 865060640001
designator C?  value 1uF
WCAP-ASLL Aluminum Electrolytic Capacitors, size Ф4x5.5mm, 50V DC, 1uF; Part Number: 865060640001; Rated Voltage: 50V DC; ComponentLink1Description: Manufacturer; ComponentLink1URL: http://www.we-online.de; ComponentLink2Description: Datasheet; ComponentLink2URL: http://katalog.we-online.de/pbs/datasheet/865060640001.pdf; Published Date: June 2017; Publisher: Wurth Elektronik; Size: Ф4x5.5mm; Life Cycle: 2000h; Operating Temperature: -55 °C up to +105 °C
footprint WCAP-ASLL_4x5.5
pins: 1 P, 2 N

## 865060640002
designator C?  value 2.2uF
WCAP-ASLL Aluminum Electrolytic Capacitors, size Ф4x5.5mm, 50V DC, 2.2uF; Part Number: 865060640002; Rated Voltage: 50V DC; ComponentLink1Description: Manufacturer; ComponentLink1URL: http://www.we-online.de; ComponentLink2Description: Datasheet; ComponentLink2URL: http://katalog.we-online.de/pbs/datasheet/865060640002.pdf; Published Date: June 2017; Publisher: Wurth Elektronik; Size: Ф4x5.5mm; Life Cycle: 2000h; Operating Temperature: -55 °C up to +105 °C
footprint WCAP-ASLL_4x5.5
pins: 1 P, 2 N

## 865060640003
designator C?  value 3.3uF
WCAP-ASLL Aluminum Electrolytic Capacitors, size Ф4x5.5mm, 50V DC, 3.3uF; Part Number: 865060640003; Rated Voltage: 50V DC; ComponentLink1Description: Manufacturer; ComponentLink1URL: http://www.we-online.de; ComponentLink2Description: Datasheet; ComponentLink2URL: http://katalog.we-online.de/pbs/datasheet/865060640003.pdf; Published Date: June 2017; Publisher: Wurth Elektronik; Size: Ф4x5.5mm; Life Cycle: 2000h; Operating Temperature: -55 °C up to +105 °C
footprint WCAP-ASLL_4x5.5
pins: 1 P, 2 N

## 865060642004
designator C?  value 4.7uF
WCAP-ASLL Aluminum Electrolytic Capacitors, size Ф5x5.5mm, 50V DC, 4.7uF; Part Number: 865060642004; Rated Voltage: 50V DC; ComponentLink1Description: Manufacturer; ComponentLink1URL: http://www.we-online.de; ComponentLink2Description: Datasheet; ComponentLink2URL: http://katalog.we-online.de/pbs/datasheet/865060642004.pdf; Published Date: June 2017; Publisher: Wurth Elektronik; Size: Ф5x5.5mm; Life Cycle: 2000h; Operating Temperature: -55 °C up to +105 °C
footprint WCAP-ASLL_5x5.5
pins: 1 P, 2 N

## 865060643005
designator C?  value 10uF
WCAP-ASLL Aluminum Electrolytic Capacitors, size Ф6.3x5.5mm, 50V DC, 10uF; Part Number: 865060643005; Rated Voltage: 50V DC; ComponentLink1Description: Manufacturer; ComponentLink1URL: http://www.we-online.de; ComponentLink2Description: Datasheet; ComponentLink2URL: http://katalog.we-online.de/pbs/datasheet/865060643005.pdf; Published Date: June 2017; Publisher: Wurth Elektronik; Size: Ф6.3x5.5mm; Life Cycle: 2000h; Operating Temperature: -55 °C up to +105 °C
footprint WCAP-ASLL_6.3x5.5
pins: 1 P, 2 N

## 865060643006
designator C?  value 22uF
WCAP-ASLL Aluminum Electrolytic Capacitors, size Ф6.3x5.5mm, 50V DC, 22uF; Part Number: 865060643006; Rated Voltage: 50V DC; ComponentLink1Description: Manufacturer; ComponentLink1URL: http://www.we-online.de; ComponentLink2Description: Datasheet; ComponentLink2URL: http://katalog.we-online.de/pbs/datasheet/865060643006.pdf; Published Date: June 2017; Publisher: Wurth Elektronik; Size: Ф6.3x5.5mm; Life Cycle: 2000h; Operating Temperature: -55 °C up to +105 °C
footprint WCAP-ASLL_6.3x5.5
pins: 1 P, 2 N

## 865060645007
designator C?  value 33uF
WCAP-ASLL Aluminum Electrolytic Capacitors, size Ф6.3x7.7mm, 50V DC, 33uF; Part Number: 865060645007; Rated Voltage: 50V DC; ComponentLink1Description: Manufacturer; ComponentLink1URL: http://www.we-online.de; ComponentLink2Description: Datasheet; ComponentLink2URL: http://katalog.we-online.de/pbs/datasheet/865060645007.pdf; Published Date: June 2017; Publisher: Wurth Elektronik; Size: Ф6.3x7.7mm; Life Cycle: 2000h; Operating Temperature: -55 °C up to +105 °C
footprint WCAP-ASLL_6.3x7.7
pins: 1 P, 2 N

## 865060645008
designator C?  value 47uF
WCAP-ASLL Aluminum Electrolytic Capacitors, size Ф6.3x7.7mm, 50V DC, 47uF; Part Number: 865060645008; Rated Voltage: 50V DC; ComponentLink1Description: Manufacturer; ComponentLink1URL: http://www.we-online.de; ComponentLink2Description: Datasheet; ComponentLink2URL: http://katalog.we-online.de/pbs/datasheet/865060645008.pdf; Published Date: June 2017; Publisher: Wurth Elektronik; Size: Ф6.3x7.7mm; Life Cycle: 2000h; Operating Temperature: -55 °C up to +105 °C
footprint WCAP-ASLL_6.3x7.7
pins: 1 P, 2 N

## 865060653009
designator C?  value 68uF
WCAP-ASLL Aluminum Electrolytic Capacitors, size Ф8x10.5mm, 50V DC, 68uF; Part Number: 865060653009; Rated Voltage: 50V DC; ComponentLink1Description: Manufacturer; ComponentLink1URL: http://www.we-online.de; ComponentLink2Description: Datasheet; ComponentLink2URL: http://katalog.we-online.de/pbs/datasheet/865060653009.pdf; Published Date: June 2017; Publisher: Wurth Elektronik; Size: Ф8x10.5mm; Life Cycle: 5000h; Operating Temperature: -55 °C up to +105 °C
footprint WCAP-ASLL_8x10.5
pins: 1 P, 2 N

## 865060653010
designator C?  value 100uF
WCAP-ASLL Aluminum Electrolytic Capacitors, size Ф8x10.5mm, 50V DC, 100uF; Part Number: 865060653010; Rated Voltage: 50V DC; ComponentLink1Description: Manufacturer; ComponentLink1URL: http://www.we-online.de; ComponentLink2Description: Datasheet; ComponentLink2URL: http://katalog.we-online.de/pbs/datasheet/865060653010.pdf; Published Date: June 2017; Publisher: Wurth Elektronik; Size: Ф8x10.5mm; Life Cycle: 5000h; Operating Temperature: -55 °C up to +105 °C
footprint WCAP-ASLL_8x10.5
pins: 1 P, 2 N

## 865060657011
designator C?  value 150uF
WCAP-ASLL Aluminum Electrolytic Capacitors, size Ф10x10.5mm, 50V DC, 150uF; Part Number: 865060657011; Rated Voltage: 50V DC; ComponentLink1Description: Manufacturer; ComponentLink1URL: http://www.we-online.de; ComponentLink2Description: Datasheet; ComponentLink2URL: http://katalog.we-online.de/pbs/datasheet/865060657011.pdf; Published Date: June 2017; Publisher: Wurth Elektronik; Size: Ф10x10.5mm; Life Cycle: 5000h; Operating Temperature: -55 °C up to +105 °C
footprint WCAP-ASLL_10x10.5
pins: 1 P, 2 N

## 865060657012
designator C?  value 220uF
WCAP-ASLL Aluminum Electrolytic Capacitors, size Ф10x10.5mm, 50V DC, 220uF; Part Number: 865060657012; Rated Voltage: 50V DC; ComponentLink1Description: Manufacturer; ComponentLink1URL: http://www.we-online.de; ComponentLink2Description: Datasheet; ComponentLink2URL: http://katalog.we-online.de/pbs/datasheet/865060657012.pdf; Published Date: June 2017; Publisher: Wurth Elektronik; Size: Ф10x10.5mm; Life Cycle: 5000h; Operating Temperature: -55 °C up to +105 °C
footprint WCAP-ASLL_10x10.5
pins: 1 P, 2 N

## 865060663013
designator C?  value 470uF
WCAP-ASLL Aluminum Electrolytic Capacitors, size Ф16x17mm, 50V DC, 470uF; Part Number: 865060663013; Rated Voltage: 50V DC; ComponentLink1Description: Manufacturer; ComponentLink1URL: http://www.we-online.de; ComponentLink2Description: Datasheet; ComponentLink2URL: http://katalog.we-online.de/pbs/datasheet/865060663013.pdf; Published Date: June 2017; Publisher: Wurth Elektronik; Size: Ф16x17mm; Life Cycle: 5000h; Operating Temperature: -55 °C up to +105 °C
footprint WCAP-ASLL_16x17
pins: 1 P, 2 N

## 865060663014
designator C?  value 680uF
WCAP-ASLL Aluminum Electrolytic Capacitors, size Ф16x17mm, 50V DC, 680uF; Part Number: 865060663014; Rated Voltage: 50V DC; ComponentLink1Description: Manufacturer; ComponentLink1URL: http://www.we-online.de; ComponentLink2Description: Datasheet; ComponentLink2URL: http://katalog.we-online.de/pbs/datasheet/865060663014.pdf; Published Date: June 2017; Publisher: Wurth Elektronik; Size: Ф16x17mm; Life Cycle: 5000h; Operating Temperature: -55 °C up to +105 °C
footprint WCAP-ASLL_16x17
pins: 1 P, 2 N

## 865060663015
designator C?  value 1mF
WCAP-ASLL Aluminum Electrolytic Capacitors, size Ф16x17mm, 50V DC, 1mF; Part Number: 865060663015; Rated Voltage: 50V DC; ComponentLink1Description: Manufacturer; ComponentLink1URL: http://www.we-online.de; ComponentLink2Description: Datasheet; ComponentLink2URL: http://katalog.we-online.de/pbs/datasheet/865060663015.pdf; Published Date: June 2017; Publisher: Wurth Elektronik; Size: Ф16x17mm; Life Cycle: 5000h; Operating Temperature: -55 °C up to +105 °C
footprint WCAP-ASLL_16x17
pins: 1 P, 2 N

## 865060742001
designator C?  value 4.7uF
WCAP-ASLL Aluminum Electrolytic Capacitors, size Ф5x5.5mm, 63V DC, 4.7uF; Part Number: 865060742001; Rated Voltage: 63V DC; ComponentLink1Description: Manufacturer; ComponentLink1URL: http://www.we-online.de; ComponentLink2Description: Datasheet; ComponentLink2URL: http://katalog.we-online.de/pbs/datasheet/865060742001.pdf; Published Date: June 2017; Publisher: Wurth Elektronik; Size: Ф5x5.5mm; Life Cycle: 2000h; Operating Temperature: -55 °C up to +105 °C
footprint WCAP-ASLL_5x5.5
pins: 1 P, 2 N

## 865060743002
designator C?  value 10uF
WCAP-ASLL Aluminum Electrolytic Capacitors, size Ф6.3x5.5mm, 63V DC, 10uF; Part Number: 865060743002; Rated Voltage: 63V DC; ComponentLink1Description: Manufacturer; ComponentLink1URL: http://www.we-online.de; ComponentLink2Description: Datasheet; ComponentLink2URL: http://katalog.we-online.de/pbs/datasheet/865060743002.pdf; Published Date: June 2017; Publisher: Wurth Elektronik; Size: Ф6.3x5.5mm; Life Cycle: 2000h; Operating Temperature: -55 °C up to +105 °C
footprint WCAP-ASLL_6.3x5.5
pins: 1 P, 2 N

## 865060745003
designator C?  value 22uF
WCAP-ASLL Aluminum Electrolytic Capacitors, size Ф6.3x7.7mm, 63V DC, 22uF; Part Number: 865060745003; Rated Voltage: 63V DC; ComponentLink1Description: Manufacturer; ComponentLink1URL: http://www.we-online.de; ComponentLink2Description: Datasheet; ComponentLink2URL: http://katalog.we-online.de/pbs/datasheet/865060745003.pdf; Published Date: June 2017; Publisher: Wurth Elektronik; Size: Ф6.3x7.7mm; Life Cycle: 2000h; Operating Temperature: -55 °C up to +105 °C
footprint WCAP-ASLL_6.3x7.7
pins: 1 P, 2 N

## 865060753004
designator C?  value 33uF
WCAP-ASLL Aluminum Electrolytic Capacitors, size Ф8x10.5mm, 63V DC, 33uF; Part Number: 865060753004; Rated Voltage: 63V DC; ComponentLink1Description: Manufacturer; ComponentLink1URL: http://www.we-online.de; ComponentLink2Description: Datasheet; ComponentLink2URL: http://katalog.we-online.de/pbs/datasheet/865060753004.pdf; Published Date: June 2017; Publisher: Wurth Elektronik; Size: Ф8x10.5mm; Life Cycle: 5000h; Operating Temperature: -55 °C up to +105 °C
footprint WCAP-ASLL_8x10.5
pins: 1 P, 2 N

## 865060753005
designator C?  value 47uF
WCAP-ASLL Aluminum Electrolytic Capacitors, size Ф8x10.5mm, 63V DC, 47uF; Part Number: 865060753005; Rated Voltage: 63V DC; ComponentLink1Description: Manufacturer; ComponentLink1URL: http://www.we-online.de; ComponentLink2Description: Datasheet; ComponentLink2URL: http://katalog.we-online.de/pbs/datasheet/865060753005.pdf; Published Date: June 2017; Publisher: Wurth Elektronik; Size: Ф8x10.5mm; Life Cycle: 5000h; Operating Temperature: -55 °C up to +105 °C
footprint WCAP-ASLL_8x10.5
pins: 1 P, 2 N

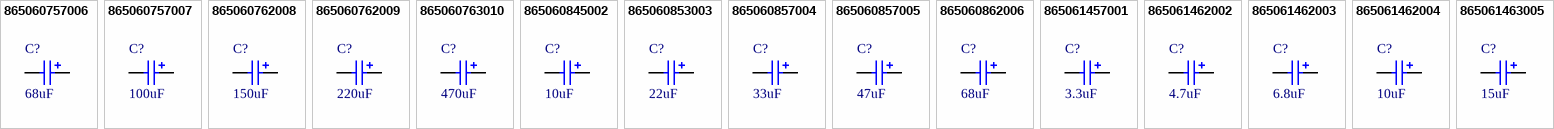
[diagram p2: symbols 865060757006 to 865061463005]

## 865060757006
designator C?  value 68uF
WCAP-ASLL Aluminum Electrolytic Capacitors, size Ф10x10.5mm, 63V DC, 68uF; Part Number: 865060757006; Rated Voltage: 63V DC; ComponentLink1Description: Manufacturer; ComponentLink1URL: http://www.we-online.de; ComponentLink2Description: Datasheet; ComponentLink2URL: http://katalog.we-online.de/pbs/datasheet/865060757006.pdf; Published Date: June 2017; Publisher: Wurth Elektronik; Size: Ф10x10.5mm; Life Cycle: 5000h; Operating Temperature: -55 °C up to +105 °C
footprint WCAP-ASLL_10x10.5
pins: 1 P, 2 N

## 865060757007
designator C?  value 100uF
WCAP-ASLL Aluminum Electrolytic Capacitors, size Ф10x10.5mm, 63V DC, 100uF; Part Number: 865060757007; Rated Voltage: 63V DC; ComponentLink1Description: Manufacturer; ComponentLink1URL: http://www.we-online.de; ComponentLink2Description: Datasheet; ComponentLink2URL: http://katalog.we-online.de/pbs/datasheet/865060757007.pdf; Published Date: June 2017; Publisher: Wurth Elektronik; Size: Ф10x10.5mm; Life Cycle: 5000h; Operating Temperature: -55 °C up to +105 °C
footprint WCAP-ASLL_10x10.5
pins: 1 P, 2 N

## 865060762008
designator C?  value 150uF
WCAP-ASLL Aluminum Electrolytic Capacitors, size Ф12.5x14mm, 63V DC, 150uF; Part Number: 865060762008; Rated Voltage: 63V DC; ComponentLink1Description: Manufacturer; ComponentLink1URL: http://www.we-online.de; ComponentLink2Description: Datasheet; ComponentLink2URL: http://katalog.we-online.de/pbs/datasheet/865060762008.pdf; Published Date: June 2017; Publisher: Wurth Elektronik; Size: Ф12.5x14mm; Life Cycle: 5000h; Operating Temperature: -55 °C up to +105 °C
footprint WCAP-ASLL_12.5x14
pins: 1 P, 2 N

## 865060762009
designator C?  value 220uF
WCAP-ASLL Aluminum Electrolytic Capacitors, size Ф12.5x14mm, 63V DC, 220uF; Part Number: 865060762009; Rated Voltage: 63V DC; ComponentLink1Description: Manufacturer; ComponentLink1URL: http://www.we-online.de; ComponentLink2Description: Datasheet; ComponentLink2URL: http://katalog.we-online.de/pbs/datasheet/865060762009.pdf; Published Date: June 2017; Publisher: Wurth Elektronik; Size: Ф12.5x14mm; Life Cycle: 5000h; Operating Temperature: -55 °C up to +105 °C
footprint WCAP-ASLL_12.5x14
pins: 1 P, 2 N

## 865060763010
designator C?  value 470uF
WCAP-ASLL Aluminum Electrolytic Capacitors, size Ф16x17mm, 63V DC, 470uF; Part Number: 865060763010; Rated Voltage: 63V DC; ComponentLink1Description: Manufacturer; ComponentLink1URL: http://www.we-online.de; ComponentLink2Description: Datasheet; ComponentLink2URL: http://katalog.we-online.de/pbs/datasheet/865060763010.pdf; Published Date: June 2017; Publisher: Wurth Elektronik; Size: Ф16x17mm; Life Cycle: 5000h; Operating Temperature: -55 °C up to +105 °C
footprint WCAP-ASLL_16x17
pins: 1 P, 2 N

## 865060845002
designator C?  value 10uF
WCAP-ASLL Aluminum Electrolytic Capacitors, size Ф6.3x7.7mm, 100V DC, 10uF; Part Number: 865060845002; Rated Voltage: 100V DC; ComponentLink1Description: Manufacturer; ComponentLink1URL: http://www.we-online.de; ComponentLink2Description: Datasheet; ComponentLink2URL: http://katalog.we-online.de/pbs/datasheet/865060845002.pdf; Published Date: June 2017; Publisher: Wurth Elektronik; Size: Ф6.3x7.7mm; Life Cycle: 2000h; Operating Temperature: -55 °C up to +105 °C
footprint WCAP-ASLL_6.3x7.7
pins: 1 P, 2 N

## 865060853003
designator C?  value 22uF
WCAP-ASLL Aluminum Electrolytic Capacitors, size Ф8x10.5mm, 100V DC, 22uF; Part Number: 865060853003; Rated Voltage: 100V DC; ComponentLink1Description: Manufacturer; ComponentLink1URL: http://www.we-online.de; ComponentLink2Description: Datasheet; ComponentLink2URL: http://katalog.we-online.de/pbs/datasheet/865060853003.pdf; Published Date: June 2017; Publisher: Wurth Elektronik; Size: Ф8x10.5mm; Life Cycle: 5000h; Operating Temperature: -55 °C up to +105 °C
footprint WCAP-ASLL_8x10.5
pins: 1 P, 2 N

## 865060857004
designator C?  value 33uF
WCAP-ASLL Aluminum Electrolytic Capacitors, size Ф10x10.5mm, 100V DC, 33uF; Part Number: 865060857004; Rated Voltage: 100V DC; ComponentLink1Description: Manufacturer; ComponentLink1URL: http://www.we-online.de; ComponentLink2Description: Datasheet; ComponentLink2URL: http://katalog.we-online.de/pbs/datasheet/865060857004.pdf; Published Date: June 2017; Publisher: Wurth Elektronik; Size: Ф10x10.5mm; Life Cycle: 5000h; Operating Temperature: -55 °C up to +105 °C
footprint WCAP-ASLL_10x10.5
pins: 1 P, 2 N

## 865060857005
designator C?  value 47uF
WCAP-ASLL Aluminum Electrolytic Capacitors, size Ф10x10.5mm, 100V DC, 47uF; Part Number: 865060857005; Rated Voltage: 100V DC; ComponentLink1Description: Manufacturer; ComponentLink1URL: http://www.we-online.de; ComponentLink2Description: Datasheet; ComponentLink2URL: http://katalog.we-online.de/pbs/datasheet/865060857005.pdf; Published Date: June 2017; Publisher: Wurth Elektronik; Size: Ф10x10.5mm; Life Cycle: 5000h; Operating Temperature: -55 °C up to +105 °C
footprint WCAP-ASLL_10x10.5
pins: 1 P, 2 N

## 865060862006
designator C?  value 68uF
WCAP-ASLL Aluminum Electrolytic Capacitors, size Ф12.5x14mm, 100V DC, 68uF; Part Number: 865060862006; Rated Voltage: 100V DC; ComponentLink1Description: Manufacturer; ComponentLink1URL: http://www.we-online.de; ComponentLink2Description: Datasheet; ComponentLink2URL: http://katalog.we-online.de/pbs/datasheet/865060862006.pdf; Published Date: June 2017; Publisher: Wurth Elektronik; Size: Ф12.5x14mm; Life Cycle: 5000h; Operating Temperature: -55 °C up to +105 °C
footprint WCAP-ASLL_12.5x14
pins: 1 P, 2 N